# Altium footprint library MergeRev3_0.PcbLib: 6 footprints
Each footprint in its own frame and in the unit in brackets; x right, y up, seen from the top. Pads: shape width x height; smd on the part's side, far side on the other; paste and mask are expansions set on the pad; w line width, h text height; cw(c..) or ccw(c..) is an arc to the next point about the centre after c.
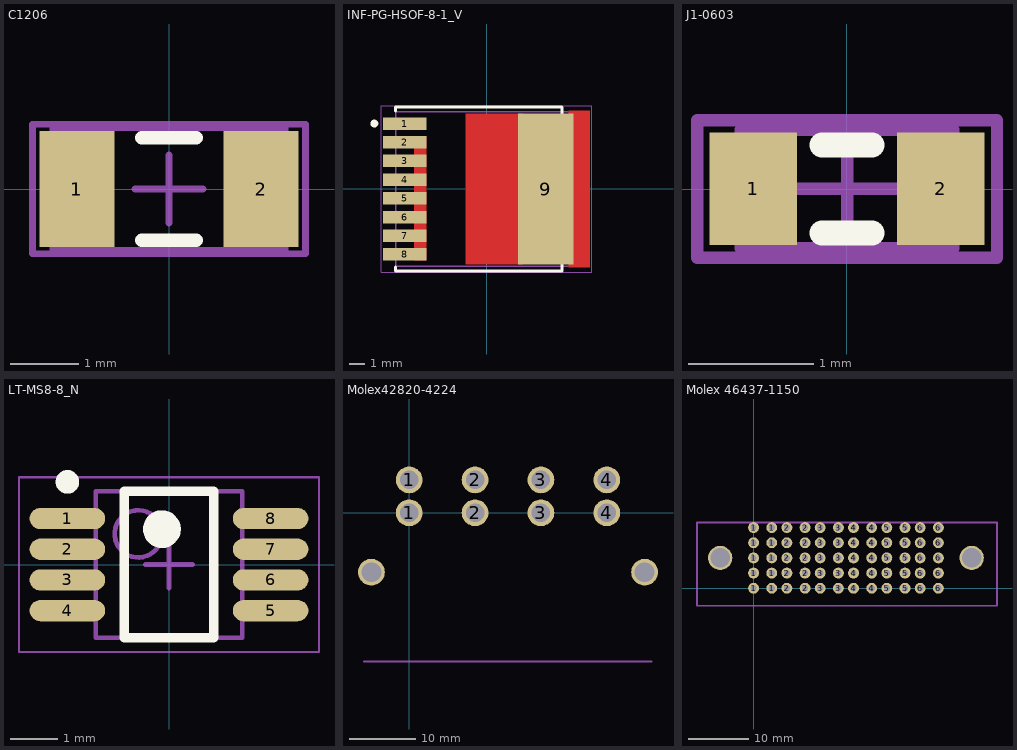
[diagram p0: the footprints below, top view; thin cyan lines are the x and y axes]

## C1206 [mm]
pads (2):
  rect 1.1x1.7 smd: 1(-1.35,0) 2(1.35,0)
Top Overlay:
  lines w0.2: -0.4,-0.75 0.4,-0.75 ; -0.4,0.75 0.4,0.75
Mechanical 13:
  lines w0.1: -1.7,-0.9 1.7,-0.9 1.7,0.9 -1.7,0.9 -1.7,-0.9
Mechanical 15:
  lines w0.1: -0.5,0 0.5,0 ; 0,-0.5 0,0.5 ; -2,-0.95 2,-0.95 2,0.95 -2,0.95 -2,-0.95
3D body: height 1.3, standoff 0, extent -1.7,-0.9 1.7,0.9

## INF-PG-HSOF-8-1_V [mm]
pads (9):
  rect 2.8x0.8 smd: 1(-5.249,4.2) 2(-5.249,3) 3(-5.249,1.8) 4(-5.249,0.6) 5(-5.249,-0.6) 6(-5.249,-1.8) 7(-5.249,-3) 8(-5.249,-4.2)
  rect 3.556x9.703 smd: 9(3.8,0)
Top Layer:
  region: -4.65,3.4 -4.65,-4.6 -3.85,-4.6 -3.85,3.4
  region: 5.25,5.05 5.25,-5.05 6.65,-5.05 6.65,5.05
  region: -1.35,4.85 -1.35,-4.85 2.35,-4.85 2.35,4.85
Top Overlay:
  circle w0.25: c-7.199,4.2 r0.125
  lines w0.2: -5.837,-5 -5.837,-5.25 4.85,-5.25 4.85,-4.75 ; -5.837,5 -5.837,5.25 4.85,5.25 4.85,4.75
Mechanical 13:
  lines w0.1: -5.837,-4.95 5.837,-4.95 5.837,4.95 -5.837,4.95 -5.837,-4.95
Mechanical 15:
  lines w0.05: -6.75,-5.35 -6.75,5.35 6.75,5.35 6.75,-5.35 -6.75,-5.35
  lines w0.1: -0.5,0 0.5,0 ; 0,-0.5 0,0.5
3D body: height 2.4, standoff 0, extent -5.837,-4.949 5.837,4.949

## J1-0603 [mm]
pads (2):
  rect 0.7x0.9 smd: 1(-0.75,0) 2(0.75,0)
Top Overlay:
  lines w0.2: -0.2,-0.35 0.2,-0.35 ; -0.2,0.35 0.2,0.35
Mechanical 13:
  lines w0.1: -0.85,-0.475 -0.85,0.475 0.85,0.475 0.85,-0.475 -0.85,-0.475
Mechanical 15:
  lines w0.1: -0.475,0 0.475,0 ; 0,-0.475 0,0.475 ; -1.2,-0.55 -1.2,0.55 1.2,0.55 1.2,-0.55 -1.2,-0.55
3D body: height 0.9, standoff 0, extent -0.85,-0.475 0.85,0.475

## LT-MS8-8_N [mm]
pads (8):
  oval 1.6x0.45 smd: 1(-2.15,0.975) 2(-2.15,0.325) 3(-2.15,-0.325) 4(-2.15,-0.975) 5(2.15,-0.975) 6(2.15,-0.325) 7(2.15,0.325) 8(2.15,0.975)
Top Overlay:
  circle w0.25: c-2.15,1.75 r0.125
  circle w0.4: c-0.15,0.75 r0.2
  lines w0.2: -0.95,-1.55 -0.95,1.55 0.95,1.55 0.95,-1.55 -0.95,-1.55
Mechanical 13:
  circle w0.1: c-0.65,0.65 r0.5
  lines w0.1: -1.55,-1.55 -1.55,1.55 1.55,1.55 1.55,-1.55 -1.55,-1.55
Mechanical 15:
  lines w0.05: -3.175,-1.85 -3.175,1.85 3.175,1.85 3.175,-1.85 -3.175,-1.85
  lines w0.1: -0.5,0 0.5,0 ; 0,-0.5 0,0.5
3D body: height 1.1, standoff 0.05, extent -1.55,-1.55 1.55,1.55

## Molex42820-4224 [mm]
pads (10):
  round 4.064 hole 2.8: 1(0,0) 1(0,5) 2(10,0) 2(10,5) 3(20,0) 3(20,5) 4(30,0) 4(30,5)
  round 4.064 hole 3 unplated: ""(-5.73,-9) ""(35.73,-9)
Mechanical 1:
  lines w0.254: -6.86,-22.555 36.833,-22.555
3D body "428204224.stp": height 15, standoff -3.45, extent -6.924,-22.619 36.896,5.981
3D body: height 0.25, standoff 0, extent 15.494,-2.54 15.494,-2.54

## Molex 46437-1150 [mm]
pads (62):
  round 1.8 hole 1.02: 1(0,0) 1(0,2.5) 1(0,5) 1(0,7.5) 1(0,10) 1(3,0) 1(3,2.5) 1(3,5) 1(3,7.5) 1(3,10) 2(5.5,0) 2(5.5,2.5) 2(5.5,5) 2(5.5,7.5) 2(5.5,10) 2(8.5,0) 2(8.5,2.5) 2(8.5,5) 2(8.5,7.5) 2(8.5,10) 3(11,0) 3(11,2.5) 3(11,5) 3(11,7.5) 3(11,10) 3(14,0) 3(14,2.5) 3(14,5) 3(14,7.5) 3(14,10) 4(16.5,0) 4(16.5,2.5) 4(16.5,5) 4(16.5,7.5) 4(16.5,10) 4(19.5,0) 4(19.5,2.5) 4(19.5,5) 4(19.5,7.5) 4(19.5,10) 5(22,0) 5(22,2.5) 5(22,5) 5(22,7.5) 5(22,10) 5(25,0) 5(25,2.5) 5(25,5) 5(25,7.5) 5(25,10) 6(27.5,0) 6(27.5,2.5) 6(27.5,5) 6(27.5,7.5) 6(27.5,10) 6(30.5,0) 6(30.5,2.5) 6(30.5,5) 6(30.5,7.5) 6(30.5,10)
  round 4 hole 3.2 unplated: ""(-5.5,5) ""(36,5)
Mechanical 1:
  lines w0.254: -9.33,-2.9 -9.33,10.85 40.18,10.85 40.18,-2.9 -9.33,-2.9